# EAGLE library part WTV020 (library lpatiny)
Audio module
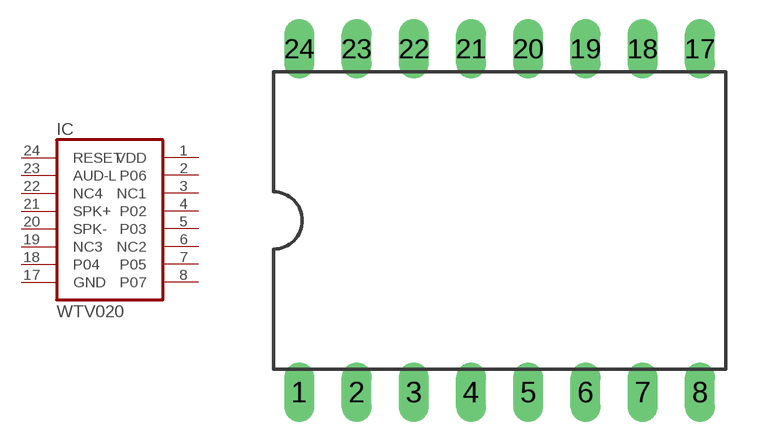
[diagram p1: symbol with the pads of DIL16-6; footprint DIL16-6]

Designator prefix IC

## WTV020  [DIL16-6]
1  VDD  pwr
2  P06  out
3  NC1  nc
4  P02  in
5  P03  in
6  NC2  nc
7  P05  in
8  P07  in
17  GND  in
18  P04  in
19  NC3  nc
20  SPK-  out
21  SPK+  out
22  NC4  nc
23  AUD-L  out
24  RESET  in

## Footprint DIL16-6 (pad centres in mm)
Dual In Line Package 0.6 inch
drill 0.813 long: 1 -13.97,-7.62; 2 -11.43,-7.62; 3 -8.89,-7.62; 4 -6.35,-7.62; 5 -3.81,-7.62; 6 -1.27,-7.62; 7 1.27,-7.62; 8 3.81,-7.62; 17 3.81,7.62; 18 1.27,7.62; 19 -1.27,7.62; 20 -3.81,7.62; 21 -6.35,7.62; 22 -8.89,7.62; 23 -11.43,7.62; 24 -13.97,7.62